# Altium integrated library IGBT_half_bridge.IntLib: 14 symbols
Pins are listed as number, name and electrical type; pins without a type are passive.

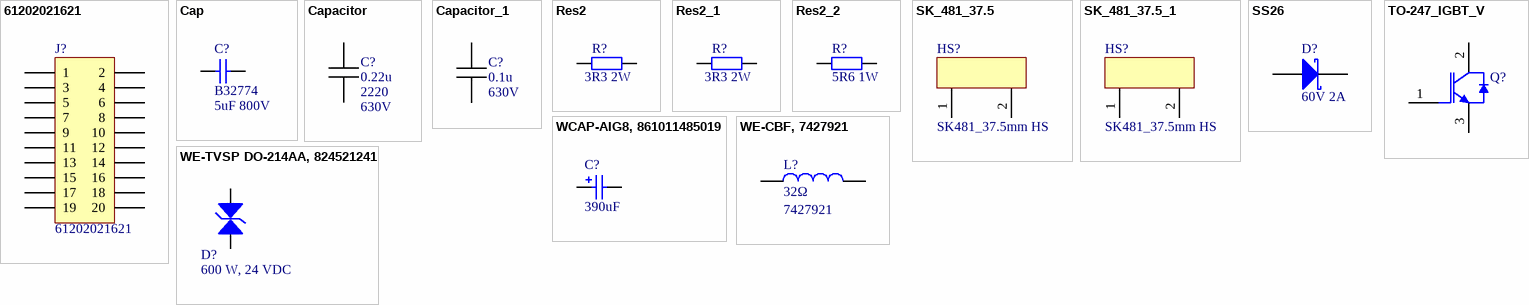
[diagram p0: symbols 61202021621 to WE-TVSP DO-214AA, 824521241]

## 61202021621
designator J?
WR-BHD 2.54mm Male Box Header; Manufacturer: Wurth Elektronik; ComponentLink1 Description: Manufacturer; ComponentLink2 Description: Datasheet; NoPins: 20; Created Date: March 2016; partNo: 61202021621; ComponentLink1URL: http://www.we-online.com; ComponentLink2URL: http://katalog.we-online.de/em/datasheet/6120xx21621.pdf; Created by: Baojun Chen
footprint 61202021621 (20 pins, straight, gold plating)
pins: 1, 2, 3, 4, 5, 6, 7, 8, 9, 10, 11, 12, 13, 14, 15, 16, 17, 18, 19, 20

## Cap
designator C?, comment B32774  value 5uF 800V
Capacitor; Published: 8-Jun-2000; LatestRevisionDate: 17-Jul-2002; LatestRevisionNote: Re-released for DXP Platform.; PackageReference: RAD-0.3; Publisher: Altium Limited; PackageDescription: Radial Cap, Thru-Hole; 2 Leads; 0.3 in Pin Spacing
footprint B32774 5uF 800V
simulation model CAP (Capacitor)
signal-integrity model Cap
pins: 1, 2

## Capacitor
designator C?  Capacitance: 0.22u  package: 2220  voltage: 630V  (hidden comment: Capacitor)
tolerance: *; type: *; material: *
footprint 0805C
footprint 1210C (Chip Capacitor, 2-Leads, Body 3.2x2.5mm, IPC Medium Density)
footprint 1206C
footprint 2220C (Chip Capacitor, 2-Leads, Body 5.70x5.00mm, IPC Low Density)
footprint 1812C (Chip Capacitor, 2-Leads, Body 4.50x3.20mm, IPC Low Density)
pins: 1, 2

## Capacitor_1
designator C?, comment Capacitance: 0.1u  voltage: 630V  (hidden comment: Capacitor)
tolerance: *; type: *; material: *
footprint 0805C
footprint 1210C (Chip Capacitor, 2-Leads, Body 3.2x2.5mm, IPC Medium Density)
footprint 1206C
footprint 2220C (Chip Capacitor, 2-Leads, Body 5.70x5.00mm, IPC Low Density)
footprint 1812C (Chip Capacitor, 2-Leads, Body 4.50x3.20mm, IPC Low Density)
footprint Cap_multi_footprint (Multiple footprint capacitor)
pins: 1, 2

## Res2
designator R?  value 3R3 2W
Resistor; Published: 8-Jun-2000; LatestRevisionDate: 17-Jul-2002; LatestRevisionNote: Re-released for DXP Platform.; PackageReference: AXIAL-0.4; Publisher: Altium Limited; PackageDescription: Axial Device, Thru-Hole; 2 Leads; 0.4 in Pin Spacing
footprint AXIAL-0.6 (Axial Device, Thru-Hole; 2 Leads; 0.6 in Pin Spacing)
simulation model RESISTOR (Resistor)
signal-integrity model Res
footprint Res_Radial_2W
pins: 1, 2

## Res2_1
designator R?  value 3R3 2W
Resistor; Published: 8-Jun-2000; LatestRevisionDate: 17-Jul-2002; LatestRevisionNote: Re-released for DXP Platform.; PackageReference: AXIAL-0.4; Publisher: Altium Limited; PackageDescription: Axial Device, Thru-Hole; 2 Leads; 0.4 in Pin Spacing
footprint Res_Radial_2W (2W resistor radial mount)
simulation model RESISTOR (Resistor)
signal-integrity model Res
pins: 1, 2

## Res2_2
designator R?, comment value 5R6 1W  (hidden comment: Res2)
Resistor; Published: 8-Jun-2000; LatestRevisionDate: 17-Jul-2002; LatestRevisionNote: Re-released for DXP Platform.; PackageReference: AXIAL-0.4; Publisher: Altium Limited; PackageDescription: Axial Device, Thru-Hole; 2 Leads; 0.4 in Pin Spacing
footprint AXIAL-0.4 (Axial Device, Thru-Hole; 2 Leads; 0.4 in Pin Spacing)
simulation model RESISTOR (Resistor)
signal-integrity model Res
footprint RES_2512 (Chip Resistor 2512, 2-Leads, Body 6.40x3.20mm, IPC Medium Density)
pins: 1, 2

## SK_481_37.5
designator HS?, comment SK481_37.5mm HS
footprint SK 481 37.5 (Fischer SK 481 Heatsink, 37.5mm wide)
pins: 1, 2

## SK_481_37.5_1
designator HS?, comment SK481_37.5mm HS
footprint SK 481 37.5_FLIP (Fischer SK 481 Heatsink, 37.5mm wide)
pins: 1, 2

## SS26
designator D?, comment 60V 2A
SS26 Schottky rectifier
footprint DO-214AA_(SMB-J-BEND)_UNI (Surface Mount Diode)
pins: A, K

## TO-247_IGBT_V
designator Q?
IGBT, TO-247, Vertical
footprint TO-247 (SIP with Mounting Hole; 3 Leads; Body 20 x 15.6 x 5 mm (typ); Pitch 5.45 mm)
pins: 1 G, 2 C, 3 E

## WCAP-AIG8, 861011485019
designator C?, comment 390uF
WCAP-AIG8 Aluminum Electrolytic Capacitors, 390uF; PartNumber: 861011485019; RatedVoltage: 450V; PublishedDate: July 2016; Publisher: Wurth Elektronik; ComponentLink1Description: Manufacturer; ComponentLink1URL: http://www.we-online.de; ComponentLink2Description: Datasheet; ComponentLink2URL: http://katalog.we-online.de/pbs/datasheet/861011485019.pdf; Value: 390uF; Size: 30mmx46mm
footprint WCAP-AIG8_30x46
pins: 1, 2

## WE-CBF, 7427921
designator L?, comment 32Ω  PartNumber: 7427921
WE-CBF SMD EMI Suppression Ferrite Bead, 1206, 32Ω; Type: High Speed; PublishedDate: Aug 2016; Publisher: Wurth Elektronik; ComponentLink1Description: Manufacturer; ComponentLink1URL: http://www.we-online.de; ComponentLink2Description: Datasheet; ComponentLink2URL: http://katalog.we-online.de/pbs/datasheet/7427921.pdf; Value: 32Ω; Size: 1206
footprint WE-CBF_1206_High Speed
pins: 1, 2

## WE-TVSP DO-214AA, 824521241
designator D?, comment 600 W, 24 VDC
WE-TVSP Power TVS Diode, bidirectional, 600 W, 24 VDC; partNo: 824521241; Manufacturer: Wurth Elektronik; ComponentLink1Description: Manufacturer; ComponentLink1URL: http://www.we-online.de; Created by: Baojun Chen; Created Date: Nov.2015; ComponentLink2Description: Datasheet; ComponentLink2URL: http://katalog.we-online.de/pbs/datasheet/824521241.pdf
footprint DO-214AA_Bidirectional
pins: 1, 2